# Altium footprint library 2021-02-08_12-51-18.PcbLib: 1 footprints
Each footprint in its own frame and in the unit in brackets; x right, y up, seen from the top. Pads: shape width x height; smd on the part's side, far side on the other; paste and mask are expansions set on the pad; w line width, h text height; cw(c..) or ccw(c..) is an arc to the next point about the centre after c.
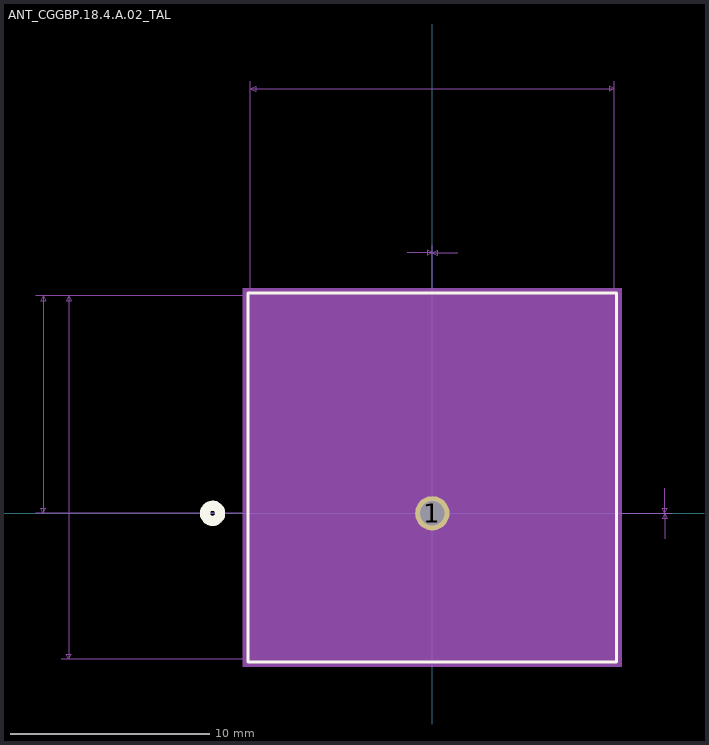
[diagram p0: the footprint, top view; thin cyan lines are the x and y axes]

## ANT_CGGBP.18.4.A.02_TAL [mil]
pads (1):
  round 68 hole 48 mask+0: 1(0,0)
Top Overlay:
  circle w20: c-435,0 r15
  lines w6: -365,-294.13 365,-294.13 365,435.87 -365,435.87 -365,-294.13
Bottom Overlay:
  circle w20: c-435,0 r15
Mechanical 5:
  region: -375,445.87 375,445.87 375,-304.13 -375,-304.13
Mechanical 7:
  lines w1: -785,0 0,0 ; -785,430.87 -360,430.87 ; -735,-289.13 -360,-289.13 ; -735,430.87 -360,430.87 ; -360,855.87 -360,430.87 ; -50,515.87 0,515.87 ; 50,515.87 0,515.87 ; 360,430.87 360,855.87 ; 460,-50 460,0 ; 460,50 460,0 ; -770,0 -770,430.87 ; -770,0 -775,10 -765,10 -770,0 ; -770,430.87 -775,420.87 -765,420.87 -770,430.87 ; -720,-289.13 -720,430.87 ; -720,-289.13 -725,-279.13 -715,-279.13 -720,-289.13 ; -720,430.87 -725,420.87 -715,420.87 -720,430.87 ; -360,840.87 360,840.87 ; -360,840.87 -350,845.87 -350,835.87 -360,840.87 ; 0,0 0,530.87 0,0 ; 0,0 475,0 0,0 ; 0,515.87 -10,520.87 -10,510.87 0,515.87 ; 0,515.87 10,520.87 10,510.87 0,515.87 ; 360,840.87 350,845.87 350,835.87 360,840.87 ; 460,0 455,10 465,10 460,0 ; 460,0 455,-10 465,-10 460,0
  text "Default Padstyle: c173h122" at -325,-449.13 h50
  text "1st Mtg Padstyle: r203_279h127" at -375,-524.13 h50
  text "2nd Mtg Padstyle: r127_254h102" at -375,-599.13 h50
  text "3rd Mtg Padstyle: r254_127h102" at -375,-674.13 h50
  text "Left Mtg Padstyle: r127_254h76" at -375,-749.13 h50
  text "Right Mtg Padstyle: r127_254h76" at -387.5,-824.13 h50
  text "Alt Padstyle 1: b152_229h76" at -337.5,-899.13 h50
  text "Alt Padstyle 2: b229_152h76" at -337.5,-974.13 h50
  text "0in/0mm" at -43.75,535.87 h25
  text "0.72in/18.288mm" at -93.75,860.87 h25
  text "0in/0mm" at 480,-12.5 h25
  text "0.431in/10.944mm" at -990,202.93 h25
  text "0.72in/18.288mm" at -927.5,58.37 h25
Mechanical 13:
  circle w20: c0,75 r15
  lines w1: -360,-289.13 360,-289.13 360,430.87 -360,430.87 -360,-289.13
Mechanical 15:
  region: 370,440.87 -370,440.87 -370,-299.13 370,-299.13
  lines w6: -370,-299.13 -370,440.87 370,440.87 370,-299.13 -370,-299.13
3D body: height 10, standoff 0, extent 0,0 10,10